# Altium schematic symbol library ANALOG.SchLib: 12 symbols
Pins are listed as number, name and electrical type; pins without a type are passive.

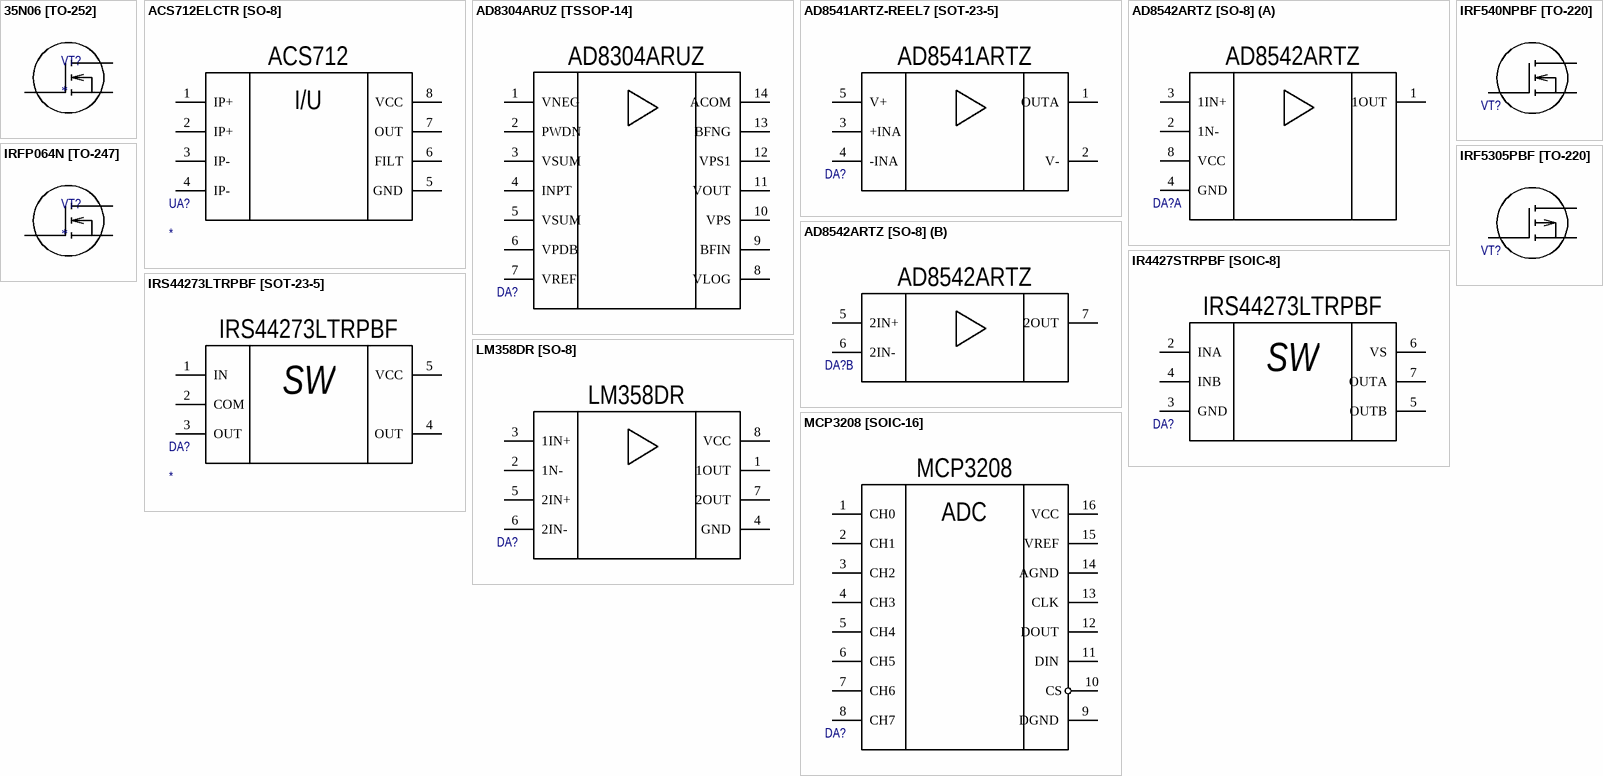
[diagram p0: symbols 35N06 [TO-252] to MCP3208 [SOIC-16]]

## 35N06 [TO-252]
designator VT?
footprint 35N06 [TO-252]
pins: 1, 2, 3

## ACS712ELCTR [SO-8]
designator UA?
Fully Integrated, Hall Effect-Based Linear Current Sensor IC / with 2.1 kVRMS Isolation and a Low-Resistance Current Conductor
footprint ACS712ELCTR [SO-8]
pins: 1 IP+, 2 IP+, 3 IP-, 4 IP-, 5 GND, 6 FILT, 7 OUT, 8 VCC
text: ACS712; I/U

## AD8304ARUZ [TSSOP-14]
designator DA?  (value not drawn)
160 dB Range (100 pA –10 mA) Logarithmic Converter
pins: 1 VNEG, 2 PWDN, 3 VSUM, 4 INPT, 5 VSUM, 6 VPDB, 7 VREF, 8 VLOG, 9 BFIN, 10 VPS, 11 VOUT, 12 VPS1, 13 BFNG, 14 ACOM
text: AD8304ARUZ

## AD8541ARTZ-REEL7 [SOT-23-5]
designator DA?  (value not drawn)
OPAMP Rail-to-Rail single-supply
footprint AD8541ARTZ-REEL7 [SOT-23-5]
pins: 1 OUTA, 2 V-, 3 +INA, 4 -INA, 5 V+
text: AD8541ARTZ

## AD8542ARTZ [SO-8]
designator DA?  (value not drawn)
footprint LM358DR [SO-8]
part A pins: 1 1OUT, 2 1N-, 3 1IN+, 4 GND, 8 VCC
part B pins: 5 2IN+, 6 2IN-, 7 2OUT
part A text: AD8542ARTZ
part B text: AD8542ARTZ

## IR4427STRPBF [SOIC-8]
designator DA?  (value not drawn)
footprint IR4427STRPBF [SOIC-8]
pins: 2 INA, 3 GND, 4 INB, 5 OUTB, 6 VS, 7 OUTA
text: IRS44273LTRPBF; SW

## IRF540NPBF [TO-220]
designator VT?  (value not drawn)
footprint IRF540NPBF [TO-220]
pins: 1, 2, 3

## IRF5305PBF [TO-220]
designator VT?  (value not drawn)
footprint IRF5305PBF [TO-220]
pins: 1, 2, 3

## IRFP064N [TO-247]
designator VT?
footprint IRFP064N [TO-247]
pins: 1, 2, 3

## IRS44273LTRPBF [SOT-23-5]
designator DA?
footprint IRS44273LTRPBF [SOT-23-5]
pins: 1 IN, 2 COM, 3 OUT, 4 OUT, 5 VCC
text: IRS44273LTRPBF; SW

## LM358DR [SO-8]
designator DA?  (value not drawn)
footprint LM358DR [SO-8]
pins: 1 1OUT, 2 1N-, 3 1IN+, 4 GND, 5 2IN+, 6 2IN-, 7 2OUT, 8 VCC
text: LM358DR

## MCP3208 [SOIC-16]
designator DA?  (value not drawn)
2.7V 8-Channel 12-Bit A/D Converters / with SPI Serial Interface
footprint MCP3208 [SOIC-16]
pins: 1 CH0, 2 CH1, 3 CH2, 4 CH3, 5 CH4, 6 CH5, 7 CH6, 8 CH7, 9 DGND, 10 CS, 11 DIN, 12 DOUT, 13 CLK, 14 AGND, 15 VREF, 16 VCC
text: MCP3208; ADC